# EAGLE library part NTSX2102 (library NXP)
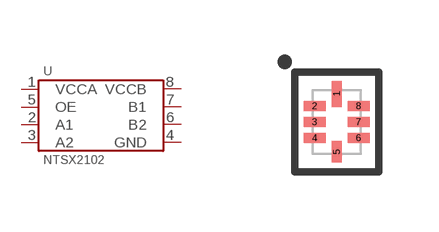
[diagram p13: symbol with the pads of XQFN-8; footprint XQFN-8]

Designator prefix U

## NTSX2102GU8H  [XQFN-8]
1  VCCA
2  A1
3  A2
4  GND
5  OE
6  B2
7  B1
8  VCCB

## Footprint XQFN-8 (pad centres in mm)
smd 0.25 x 0.65: 1 0,0.7
smd 0.55 x 0.25: 2 -0.55,0.4; 3 -0.55,0; 4 -0.55,-0.4; 6 0.55,-0.4; 7 0.55,0; 8 0.55,0.4
smd 0.25 x 0.55: 5 0,-0.75